# EAGLE library part DAISO_USBHUB (library daiso_usb_hub)
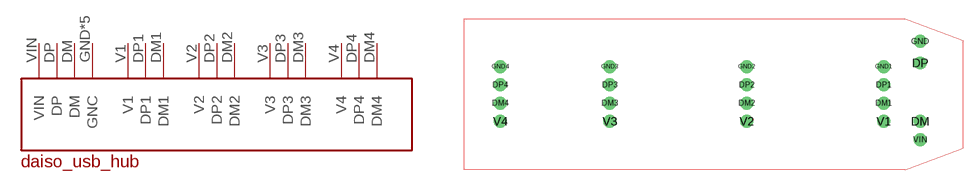
[diagram p0: symbol with the pads of DAISO_USBHUB; footprint DAISO_USBHUB]

Designator prefix -

## DAISO_USBHUB  [DAISO_USBHUB]
DM  DM
DM1  DM1
DM2  DM2
DM3  DM3
DM4  DM4
DP  DP
DP1  DP1
DP2  DP2
DP3  DP3
DP4  DP4
GND  GNC
GND1  GNC
GND2  GNC
GND3  GNC
GND4  GNC
V1  V1
V2  V2
V3  V3
V4  V4
VIN  VIN

## Footprint DAISO_USBHUB (pad centres in mm)
drill 1.2: DM 58.42,0; DM1 53.34,2.54; DM2 34.29,2.54; DM3 15.24,2.54; DM4 0,2.54; DP 58.42,8.12; DP1 53.34,5.08; DP2 34.29,5.08; DP3 15.24,5.08; DP4 0,5.08; GND 58.42,11.12; GND1 53.34,7.62; GND2 34.29,7.62; GND3 15.24,7.62; GND4 0,7.62; V1 53.34,0; V2 34.29,0; V3 15.24,0; V4 0,0; VIN 58.42,-2.54